# EAGLE library part MACH231P (library amd-mach)
AMD MACH SERIES
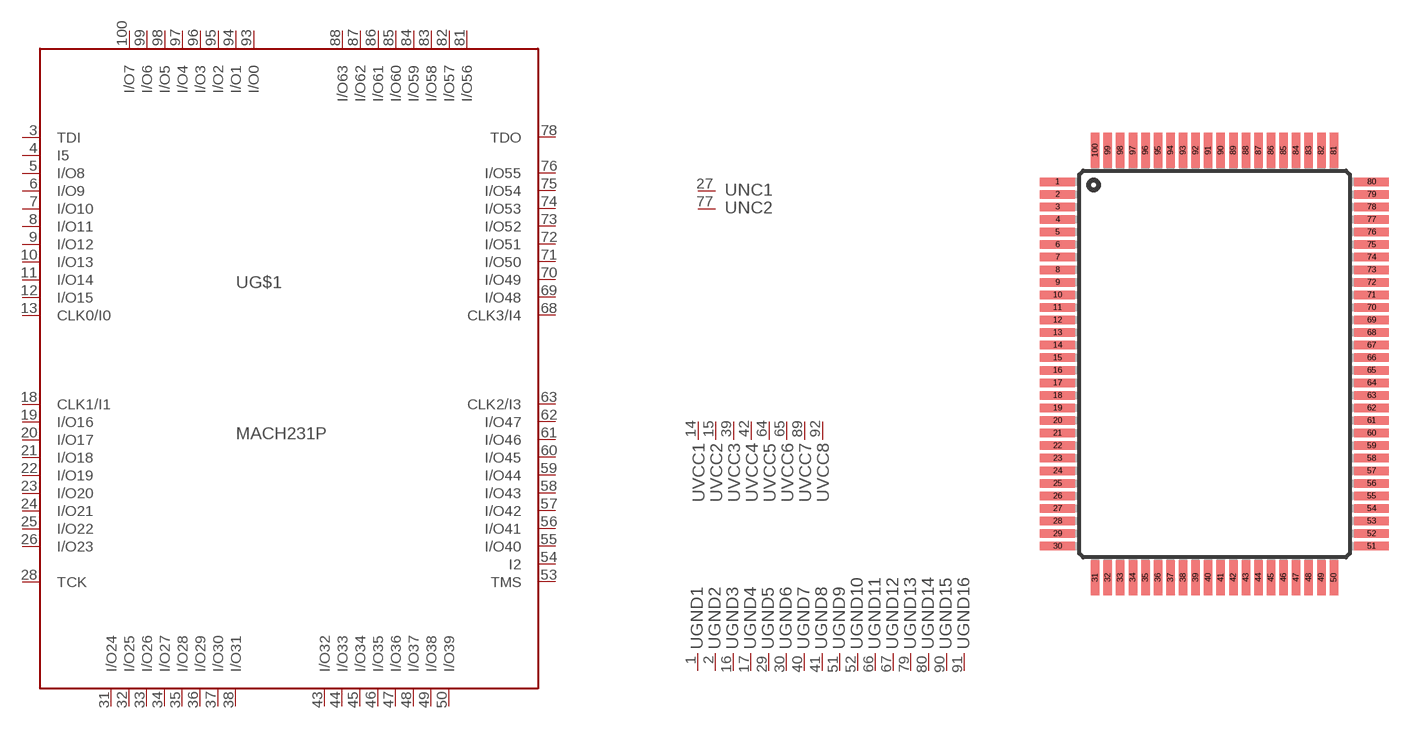
[diagram p29: symbol with the pads of PQFP100; footprint PQFP100]

Designator prefix U; gates G$1=MACH231P GND1=GND GND2=GND GND3=GND GND4=GND GND5=GND GND6=GND GND7=GND GND8=GND GND9=GND GND10=GND GND11=GND GND12=GND GND13=GND GND14=GND GND15=GND GND16=GND VCC1=VCC VCC2=VCC VCC3=VCC VCC4=VCC VCC5=VCC VCC6=VCC VCC7=VCC VCC8=VCC NC1=NC NC2=NC

## MACH231P  [PQFP100]
1  GND1:GND  pwr
2  GND2:GND  pwr
3  G$1:TDI  in
4  G$1:I5  in
5  G$1:I/O8
6  G$1:I/O9
7  G$1:I/O10
8  G$1:I/O11
9  G$1:I/O12
10  G$1:I/O13
11  G$1:I/O14
12  G$1:I/O15
13  G$1:CLK0/I0  in
14  VCC1:VCC  pwr
15  VCC2:VCC  pwr
16  GND3:GND  pwr
17  GND4:GND  pwr
18  G$1:CLK1/I1  in
19  G$1:I/O16
20  G$1:I/O17
21  G$1:I/O18
22  G$1:I/O19
23  G$1:I/O20
24  G$1:I/O21
25  G$1:I/O22
26  G$1:I/O23
27  NC1:NC  nc
28  G$1:TCK  in
29  GND5:GND  pwr
30  GND6:GND  pwr
31  G$1:I/O24
32  G$1:I/O25
33  G$1:I/O26
34  G$1:I/O27
35  G$1:I/O28
36  G$1:I/O29
37  G$1:I/O30
38  G$1:I/O31
39  VCC3:VCC  pwr
40  GND7:GND  pwr
41  GND8:GND  pwr
42  VCC4:VCC  pwr
43  G$1:I/O32
44  G$1:I/O33
45  G$1:I/O34
46  G$1:I/O35
47  G$1:I/O36
48  G$1:I/O37
49  G$1:I/O38
50  G$1:I/O39
51  GND9:GND  pwr
52  GND10:GND  pwr
53  G$1:TMS  in
54  G$1:I2  in
55  G$1:I/O40
56  G$1:I/O41
57  G$1:I/O42
58  G$1:I/O43
59  G$1:I/O44
60  G$1:I/O45
61  G$1:I/O46
62  G$1:I/O47
63  G$1:CLK2/I3  in
64  VCC5:VCC  pwr
65  VCC6:VCC  pwr
66  GND11:GND  pwr
67  GND12:GND  pwr
68  G$1:CLK3/I4  in
69  G$1:I/O48
70  G$1:I/O49
71  G$1:I/O50
72  G$1:I/O51
73  G$1:I/O52
74  G$1:I/O53
75  G$1:I/O54
76  G$1:I/O55
77  NC2:NC  nc
78  G$1:TDO  in
79  GND13:GND  pwr
80  GND14:GND  pwr
81  G$1:I/O56
82  G$1:I/O57
83  G$1:I/O58
84  G$1:I/O59
85  G$1:I/O60
86  G$1:I/O61
87  G$1:I/O62
88  G$1:I/O63
89  VCC7:VCC  pwr
90  GND15:GND  pwr
91  GND16:GND  pwr
92  VCC8:VCC  pwr
93  G$1:I/O0
94  G$1:I/O1
95  G$1:I/O2
96  G$1:I/O3
97  G$1:I/O4
98  G$1:I/O5
99  G$1:I/O6
100  G$1:I/O7

## Footprint PQFP100 (pad centres in mm)
PLASTIC QUAD FLAT PACK
smd 1.8 x 0.44: 1 -8.125,9.425; 2 -8.125,8.775; 3 -8.125,8.125; 4 -8.125,7.475; 5 -8.125,6.825; 6 -8.125,6.175; 7 -8.125,5.525; 8 -8.125,4.875; 9 -8.125,4.225; 10 -8.125,3.575; 11 -8.125,2.925; 12 -8.125,2.275; 13 -8.125,1.625; 14 -8.125,0.975; 15 -8.125,0.325; 16 -8.125,-0.325; 17 -8.125,-0.975; 18 -8.125,-1.625; 19 -8.125,-2.275; 20 -8.125,-2.925; 21 -8.125,-3.575; 22 -8.125,-4.225; 23 -8.125,-4.875; 24 -8.125,-5.525; 25 -8.125,-6.175; 26 -8.125,-6.825; 27 -8.125,-7.475; 28 -8.125,-8.125; 29 -8.125,-8.775; 30 -8.125,-9.425; 51 8.125,-9.425; 52 8.125,-8.775; 53 8.125,-8.125; 54 8.125,-7.475; 55 8.125,-6.825; 56 8.125,-6.175; 57 8.125,-5.525; 58 8.125,-4.875; 59 8.125,-4.225; 60 8.125,-3.575; 61 8.125,-2.925; 62 8.125,-2.275; 63 8.125,-1.625; 64 8.125,-0.975; 65 8.125,-0.325; 66 8.125,0.325; 67 8.125,0.975; 68 8.125,1.625; 69 8.125,2.275; 70 8.125,2.925; 71 8.125,3.575; 72 8.125,4.225; 73 8.125,4.875; 74 8.125,5.525; 75 8.125,6.175; 76 8.125,6.825; 77 8.125,7.475; 78 8.125,8.125; 79 8.125,8.775; 80 8.125,9.425
smd 0.44 x 1.8: 31 -6.175,-11.05; 32 -5.525,-11.05; 33 -4.875,-11.05; 34 -4.225,-11.05; 35 -3.575,-11.05; 36 -2.925,-11.05; 37 -2.275,-11.05; 38 -1.625,-11.05; 39 -0.975,-11.05; 40 -0.325,-11.05; 41 0.325,-11.05; 42 0.975,-11.05; 43 1.625,-11.05; 44 2.275,-11.05; 45 2.925,-11.05; 46 3.575,-11.05; 47 4.225,-11.05; 48 4.875,-11.05; 49 5.525,-11.05; 50 6.175,-11.05; 81 6.175,11.05; 82 5.525,11.05; 83 4.875,11.05; 84 4.225,11.05; 85 3.575,11.05; 86 2.925,11.05; 87 2.275,11.05; 88 1.625,11.05; 89 0.975,11.05; 90 0.325,11.05; 91 -0.325,11.05; 92 -0.975,11.05; 93 -1.625,11.05; 94 -2.275,11.05; 95 -2.925,11.05; 96 -3.575,11.05; 97 -4.225,11.05; 98 -4.875,11.05; 99 -5.525,11.05; 100 -6.175,11.05